# EAGLE library part VNA (library minicircuits)
RF AMPLIFIER Frequency MHz GAIN, dB Maximum Power, dBm Dynamic Range VSWR Absolute Maximum Rating DC Power Thermal resistance Øjc °C/W fL - fU Min. Output (1 dB Comp.) Input (no damage) NF dB Typ. IP3 dBm Typ. In Typ. Out Typ. I (mA) P (mW) Cur- rent (mA) Volt(V.) 500-2500 19.70 +11.00 +10.00 3.70 22.00 1.60 1.50 400.00 33.00 5.00 125.00 Lw=low range(fL to fU/2) U=upper range(fU/2 to fU)
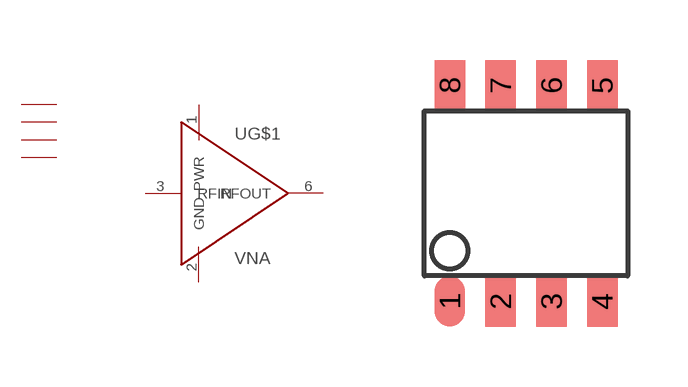
[diagram p6: symbol with the pads of XX211; footprint XX211]

Designator prefix -; gates G$1=VNA G$2=GND G$3=GND G$4=GND G$5=GND

## VNA-28  [XX211]
1  G$1:PWR  pwr
2  G$1:GND  pwr
3  G$1:RFIN  in
4  G$2:GND  pwr
5  G$3:GND  pwr
6  G$1:RFOUT  out
7  G$4:GND  pwr
8  G$5:GND  pwr

## Footprint XX211 (pad centres in mm)
smd 0.762 x 1.27: 1 0,0.635; 2 1.27,0.635; 3 2.54,0.635; 4 3.81,0.635; 5 3.81,6.032; 6 2.54,6.032; 7 1.27,6.032; 8 0,6.032